# Altium footprint library Coilcraft.PcbLib: 16 footprints
Each footprint in its own frame and in the unit in brackets; x right, y up, seen from the top. Pads: shape width x height; smd on the part's side, far side on the other; paste and mask are expansions set on the pad; w line width, h text height; cw(c..) or ccw(c..) is an arc to the next point about the centre after c.
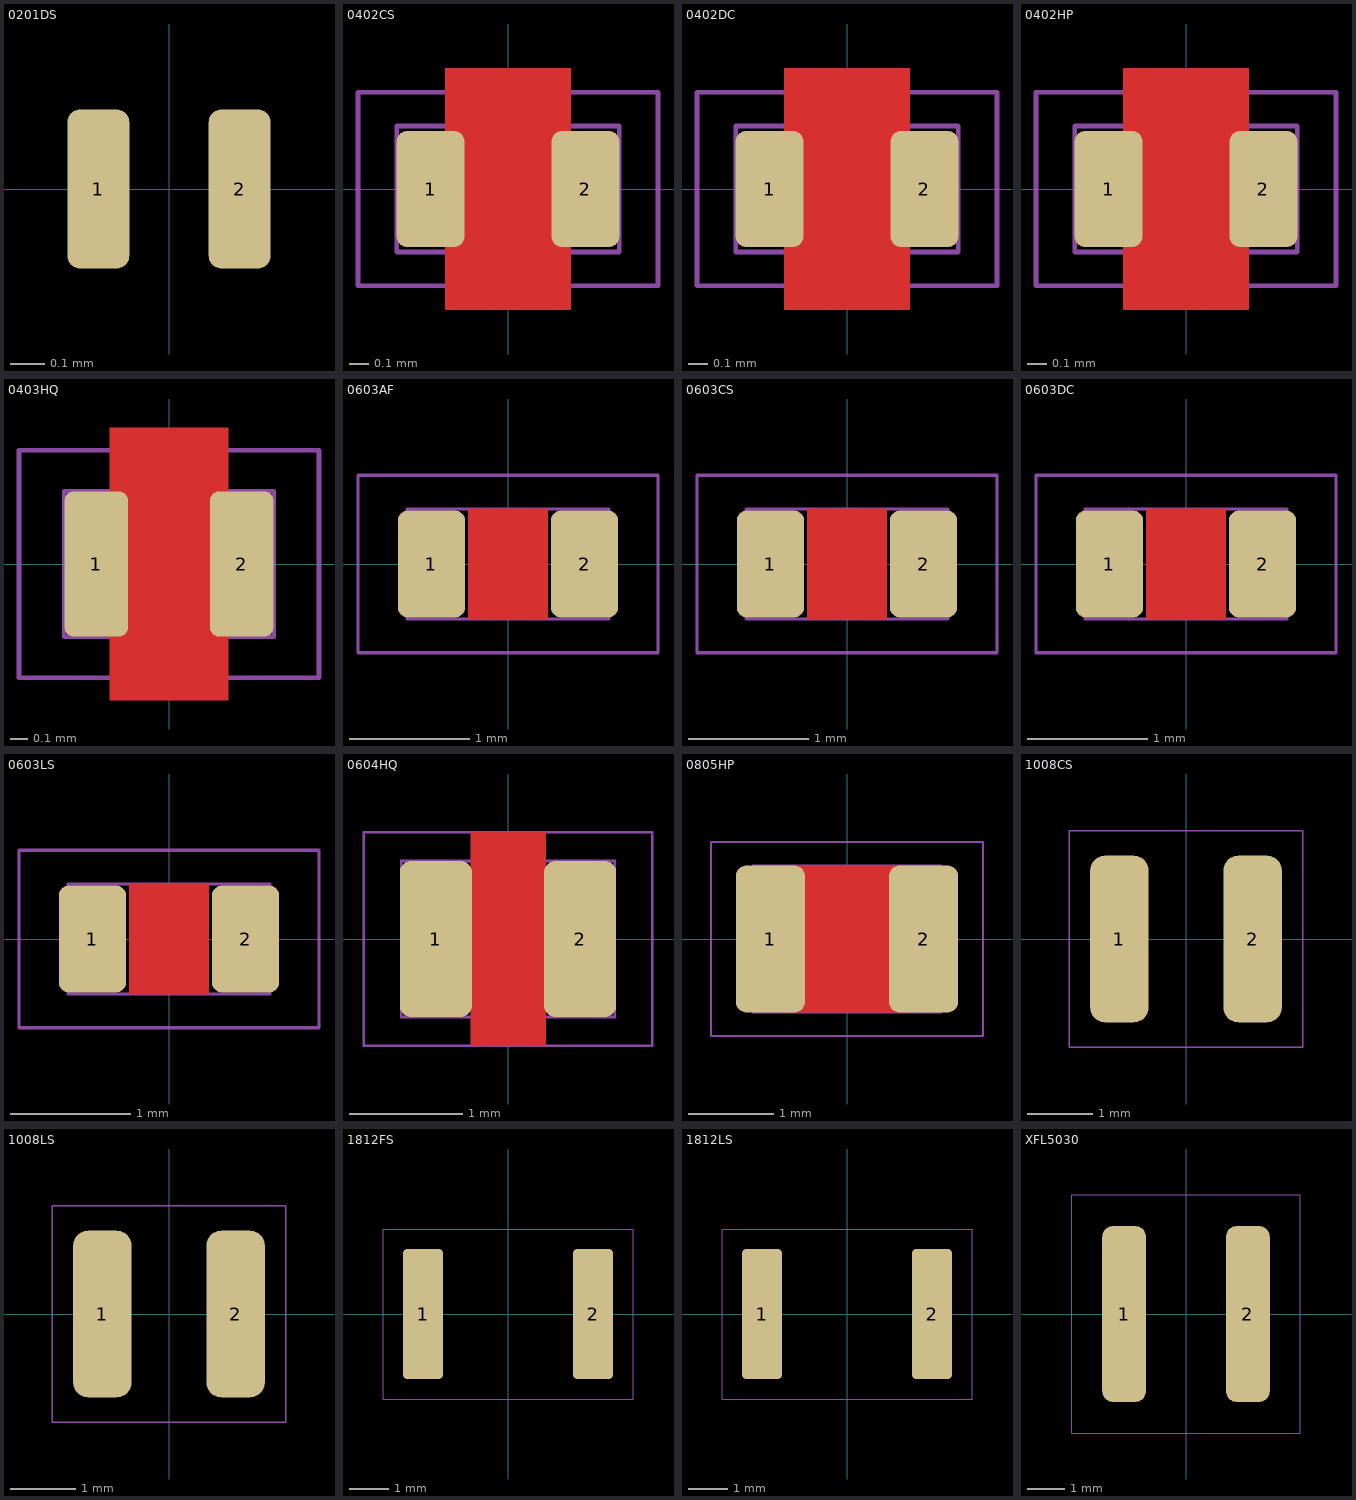
[diagram p0: the footprints below, top view; thin cyan lines are the x and y axes]

## 0201DS [mil]
pads (2):
  rrect40% 7x18 smd paste+0 mask+2: 1(-8,0) 2(8,0)
Top Designator:
  text ".Designator" at -54.7,-5.36 h15

## 0402CS [mil]
pads (2):
  rrect30% 14x24 smd mask+2: 1(-16,0) 2(16,0)
Top Layer:
  pour cut-out: -13,25 13,25 13,-25 -13,-25
Top Solder:
  rectangle: -8,-20 8,20
  rectangle: -16,-14 16,14
Top Designator:
  text ".Designator" at -72.94,-7.14 h20
Top Courtyard:
  lines w1: -31,-20 -31,20 31,20 31,-20 -31,-20
Top Component Outline:
  lines w1: -23,-13 -23,13 23,13 23,-13 -23,-13
3D body: height 20.5, standoff 20, extent -15,-2.5 -10,2.5
3D body: height 20, standoff 10, extent -23,-13 23,13
3D body: height 19, standoff 0, extent -21,-11 -13,11
3D body: height 18, standoff 5, extent -20,-10 20,10
3D body: height 19, standoff 0, extent 13,-11 21,11

## 0402DC [mil]
pads (2):
  rrect30% 14x24 smd mask+2: 1(-16,0) 2(16,0)
Top Layer:
  pour cut-out: -13,25 13,25 13,-25 -13,-25
Top Solder:
  rectangle: -16,-14 16,14
  rectangle: -8,-20 8,20
Top Designator:
  text ".Designator" at -72.94,-7.14 h20
Top Courtyard:
  lines w1: -31,-20 -31,20 31,20 31,-20 -31,-20
Top Component Outline:
  lines w1: -23,-13 23,-13 23,13 -23,13 -23,-13
3D body: height 19, standoff 0, extent 13,-11 21,11
3D body: height 18, standoff 5, extent -20,-10 20,10
3D body: height 19, standoff 0, extent -21,-11 -13,11
3D body: height 20, standoff 10, extent -23,-13 23,13
3D body: height 20.5, standoff 20, extent -15,-2.5 -10,2.5

## 0402HP [mil]
pads (2):
  rrect30% 14x24 smd mask+2: 1(-16,0) 2(16,0)
Top Layer:
  pour cut-out: -13,25 13,25 13,-25 -13,-25
Top Solder:
  rectangle: -8,-20 8,20
  rectangle: -16,-14 16,14
Top Designator:
  text ".Designator" at -72.94,-7.14 h20
Top Courtyard:
  lines w1: -31,-20 31,-20 31,20 -31,20 -31,-20
Top Component Outline:
  lines w1: -23,-13 -23,13 23,13 23,-13 -23,-13
3D body: height 20.5, standoff 20, extent -15,-2.5 -10,2.5
3D body: height 20, standoff 10, extent -23,-13 23,13
3D body: height 19, standoff 0, extent -21,-11 -13,11
3D body: height 18, standoff 5, extent -20,-10 20,10
3D body: height 19, standoff 0, extent 13,-11 21,11

## 0403HQ [mil]
pads (2):
  rrect30% 14x32 smd paste+0 mask+2: 1(-16,0) 2(16,0)
Top Layer:
  pour cut-out: -13,30 13,30 13,-30 -13,-30
Top Solder:
  rectangle: -8,-25 8,25
  rectangle: -16,-18 16,18
Top Designator:
  text ".Designator" at -72.94,-7.14 h20
Top Courtyard:
  lines w1: -33,-25 -33,25 33,25 33,-25 -33,-25
Top Component Outline:
  lines w1: -23,-16 23,-16 23,16 -23,16 -23,-16
3D body: height 25, standoff 0, extent 13,-14 21,14
3D body: height 24, standoff 5, extent -20,-13 20,13
3D body: height 25, standoff 0, extent -21,-14 -13,14
3D body: height 28, standoff 10, extent -23,-16 23,16
3D body: height 28.1, standoff 27.9, extent -15,-2.5 -10,2.5

## 0603AF [mil]
pads (2):
  rrect30% 22x35 smd paste-2 mask+2: 1(-25,0) 2(25,0)
Top Layer:
  pour cut-out: -13,18 13,18 13,-18 -13,-18
Top Courtyard:
  lines w1: -49,-29 49,-29 49,29 -49,29 -49,-29
Top Component Outline:
  lines w1: -33,-18 33,-18 33,18 -33,18 -33,-18
3D body: height 30, standoff 6, extent -30,-15 30,15
3D body: height 31, standoff 0, extent -31,-16 -17,16
3D body: height 31, standoff 0, extent 17,-16 31,16
3D body: height 32, standoff 20, extent -33,-18 33,18
3D body: height 32.5, standoff 32, extent -18,-3 -13,2

## 0603CS [mil]
pads (2):
  rrect30% 22x35 smd paste-2 mask+2: 1(-25,0) 2(25,0)
Top Layer:
  pour cut-out: -13,18 13,18 13,-18 -13,-18
Top Courtyard:
  lines w1: -49,-29 -49,29 49,29 49,-29 -49,-29
Top Component Outline:
  lines w1: -33,-18 33,-18 33,18 -33,18 -33,-18
3D body: height 32.5, standoff 32, extent -18,-3 -13,2
3D body: height 32, standoff 20, extent -33,-18 33,18
3D body: height 31, standoff 0, extent 17,-16 31,16
3D body: height 31, standoff 0, extent -31,-16 -17,16
3D body: height 30, standoff 6, extent -30,-15 30,15

## 0603DC [mil]
pads (2):
  rrect30% 22x35 smd paste-2 mask+2: 1(-25,0) 2(25,0)
Top Layer:
  pour cut-out: -13,18 13,18 13,-18 -13,-18
Top Courtyard:
  lines w1: -49,-29 -49,29 49,29 49,-29 -49,-29
Top Component Outline:
  lines w1: -33,-18 -33,18 33,18 33,-18 -33,-18
3D body: height 32.5, standoff 32, extent -18,-3 -13,2
3D body: height 32, standoff 20, extent -33,-18 33,18
3D body: height 31, standoff 0, extent 17,-16 31,16
3D body: height 31, standoff 0, extent -31,-16 -17,16
3D body: height 30, standoff 6, extent -30,-15 30,15

## 0603LS [mil]
pads (2):
  rrect30% 22x35 smd paste-2 mask+2: 1(-25,0) 2(25,0)
Top Layer:
  pour cut-out: -13,18 13,18 13,-18 -13,-18
Top Courtyard:
  lines w1: -49,-29 49,-29 49,29 -49,29 -49,-29
Top Component Outline:
  lines w1: -33,-18 -33,18 33,18 33,-18 -33,-18
3D body: height 32.5, standoff 32, extent -18,-3 -13,2
3D body: height 32, standoff 20, extent -33,-18 33,18
3D body: height 31, standoff 0, extent 17,-16 31,16
3D body: height 31, standoff 0, extent -31,-16 -17,16
3D body: height 30, standoff 6, extent -30,-15 30,15

## 0604HQ [mil]
pads (2):
  rrect30% 25x54 smd paste+0 mask+2: 1(-25,0) 2(25,0)
Top Layer:
  pour cut-out: -13,37 13,37 13,-37 -13,-37
Top Solder:
  rectangle: -20,-15 20,15
Top Designator:
  text ".Designator" at -127.64,-12.5 h35
Top Courtyard:
  lines w1: -50,-37 50,-37 50,37 -50,37 -50,-37
Top Component Outline:
  lines w1: -37,-27 -37,27 37,27 37,-27 -37,-27
3D body: height 45, standoff 0, extent 21,-25 35,25
3D body: height 47.1, standoff 46.9, extent -22,-3 -17,2
3D body: height 47, standoff 20, extent -37,-27 37,27
3D body: height 45, standoff 0, extent -35,-25 -21,25
3D body: height 43, standoff 6, extent -33,-23 33,23

## 0805HP [mil]
pads (2):
  rrect30% 32x68 smd paste-2 mask+2: 1(-35.5,0) 2(35.5,0)
Top Layer:
  pour cut-out: -30,34 30,34 30,-34 -30,-34
Top Courtyard:
  lines w1: -63,-45 -63,45 63,45 63,-45 -63,-45
Top Component Outline:
  lines w1: -43.5,-34 43.5,-34 43.5,34 -43.5,34 -43.5,-34
Top 3D Body:
  lines w1: -43.5,-34 -43.5,34 ; -43.5,-30.5 -31.5,-30.5 -31.5,30.5 -43.5,30.5 ; 43.5,-34 43.5,34 ; 43.5,-30.5 31.5,-30.5 31.5,30.5 43.5,30.5
3D body: height 32.5, standoff 32, extent -34,-2.5 -29,2.5
3D body: height 58.5, standoff 0, extent -43.5,-30.5 -31.5,30.5
3D body: height 58, standoff 6, extent -43,-30 43,30
3D body: height 58.5, standoff 0, extent 31.5,-30.5 43.5,30.5
3D body: height 61, standoff 40, extent -44.5,-34 44.5,34

## 1008CS [mil]
pads (2):
  rrect50% 35x100 smd paste-3 mask+2: 1(-40,0) 2(40,0)
Top Designator:
  text ".Designator" at 12.5,-127.64 h35
Top Courtyard:
  lines w1: -70,-65 -70,65 70,65 70,-65 -70,-65
3D body: height 75, standoff 15, extent -51,-47 51,47
3D body: height 76, standoff 10, extent -52,-48 -32,48
3D body: height 80, standoff 60, extent -53,-55 53,55
3D body: height 80.5, standoff 79.5, extent -36,-2.5 -31,2.5
3D body: height 76, standoff 10, extent 32,-48 52,48
3D body: height 10, standoff 0, extent 32,-48 52,48
3D body: height 10, standoff 0, extent -52,-48 -32,48

## 1008LS [mil]
pads (2):
  rrect50% 35x100 smd paste-3 mask+2: 1(-40,0) 2(40,0)
Top Designator:
  text ".Designator" at 12.5,-127.64 h35
Top Courtyard:
  lines w1: -70,-65 70,-65 70,65 -70,65 -70,-65
3D body: height 75, standoff 15, extent -51,-47 51,47
3D body: height 76, standoff 10, extent -52,-48 -32,48
3D body: height 80, standoff 60, extent -53,-55 53,55
3D body: height 80.5, standoff 79.5, extent -36,-2.5 -31,2.5
3D body: height 76, standoff 10, extent 32,-48 52,48
3D body: height 10, standoff 0, extent 32,-48 52,48
3D body: height 10, standoff 0, extent -52,-48 -32,48

## 1812FS [mil]
height 78.74
pads (2):
  rrect20% 40x130 smd: 1(-85,0) 2(85,0)
Top Courtyard:
  lines w1: -125,-85 125,-85 125,85 -125,85 -125,-85
3D body "Coilcraft-1812FS.step": height 150, standoff -0.39, extent -115.56,-98.02 115.54,98.04

## 1812LS [mil]
height 78.74
pads (2):
  rrect20% 40x130 smd: 1(-85,0) 2(85,0)
Top Courtyard:
  lines w1: -125,-85 125,-85 125,85 -125,85 -125,-85
3D body "Coilcraft-1812LS.step": height 134.65, standoff -0.39, extent -97.45,-74.99 97.43,75

## XFL5030 [mil]
pads (2):
  rrect50% 46x185 smd paste-3 mask+2: 1(-65,0) 2(65,0)
Top Courtyard:
  lines w1: -120,-125 -120,125 120,125 120,-125 -120,-125
3D body "Coilcraft-XFL5030.step": height 121.11, standoff -0.94, extent -107.87,-111.8 107.88,111.82